# Altium footprint library Burr-Brown Footprints.PcbLib: 201 footprints (part 4 of 13)
Each footprint in its own frame and in the unit in brackets; x right, y up, seen from the top. Pads: shape width x height; smd on the part's side, far side on the other; paste and mask are expansions set on the pad; w line width, h text height; cw(c..) or ccw(c..) is an arc to the next point about the centre after c.
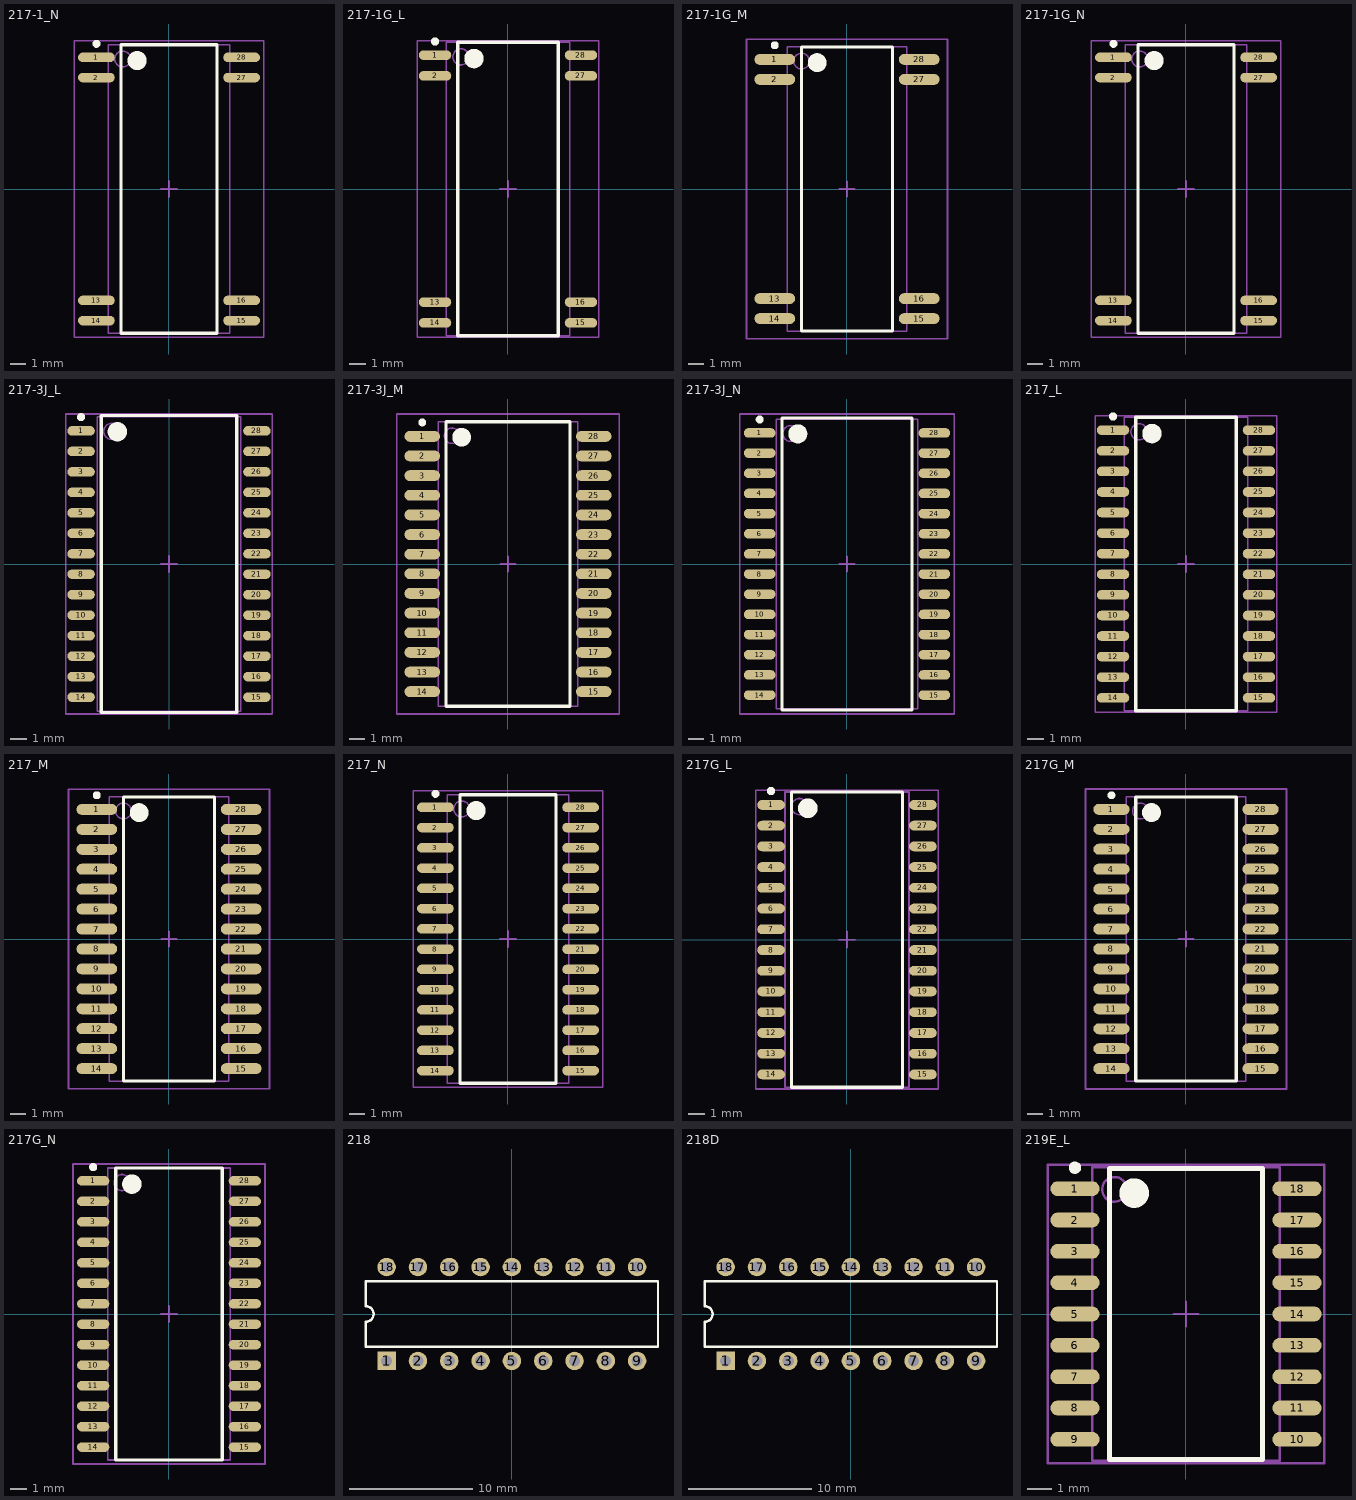
[diagram p3: the footprints below, top view; thin cyan lines are the x and y axes]

## 217-1_N [mm] "28-Pin (20 Absent) Small Outline Integrated Circuit 1.27 mm Pitch, IPC Medium Density"
height 2.64
pads (8):
  oval 2.3x0.6 smd: 1(-4.55,8.255) 2(-4.55,6.985) 13(-4.55,-6.985) 14(-4.55,-8.255) 15(4.55,-8.255) 16(4.55,-6.985) 27(4.55,6.985) 28(4.55,8.255)
Top Overlay:
  circle w0.6: c-2,8.05 r0.3
  circle w0.25: c-4.55,9.105 r0.125
  lines w0.2: -3,-9.05 3,-9.05 3,9.05 -3,9.05 -3,-9.05
Mechanical 13:
  circle w0.1: c-2.9,8.15 r0.5
  lines w0.1: -3.8,-9.05 3.8,-9.05 3.8,9.05 -3.8,9.05 -3.8,-9.05
Mechanical 15:
  lines w0.1: -0.5,0 0.5,0 ; 0,-0.5 0,0.5 ; -5.95,-9.3 5.95,-9.3 5.95,9.3 -5.95,9.3 -5.95,-9.3
3D body: height 2.64, standoff 0, extent -3.8,-9.05 3.8,9.05

## 217-1G_L [mm] "28-Pin (20 Absent) Small Outline Integrated Circuit 1.27 mm Pitch, IPC High Density"
height 2.65
pads (8):
  oval 2x0.6 smd: 1(-4.5,8.255) 2(-4.5,6.985) 13(-4.5,-6.985) 14(-4.5,-8.255) 15(4.5,-8.255) 16(4.5,-6.985) 27(4.5,6.985) 28(4.5,8.255)
Top Overlay:
  circle w0.25: c-4.5,9.105 r0.125
  circle w0.6: c-2.1,8.05 r0.3
  lines w0.2: -3.1,-9.05 -3.1,9.05 3.1,9.05 3.1,-9.05 -3.1,-9.05
Mechanical 13:
  circle w0.1: c-2.9,8.15 r0.5
  lines w0.1: -3.8,-9.05 -3.8,9.05 3.8,9.05 3.8,-9.05 -3.8,-9.05
Mechanical 15:
  lines w0.1: -0.5,0 0.5,0 ; 0,-0.5 0,0.5 ; -5.6,-9.15 -5.6,9.15 5.6,9.15 5.6,-9.15 -5.6,-9.15
3D body: height 2.65, standoff 0, extent -3.8,-9.05 3.8,9.05

## 217-1G_M [mm] "28-Pin (20 Absent) Small Outline Integrated Circuit 1.27 mm Pitch, IPC Low Density"
height 2.65
pads (8):
  oval 2.6x0.7 smd: 1(-4.6,8.255) 2(-4.6,6.985) 13(-4.6,-6.985) 14(-4.6,-8.255) 15(4.6,-8.255) 16(4.6,-6.985) 27(4.6,6.985) 28(4.6,8.255)
Top Overlay:
  circle w0.25: c-4.6,9.155 r0.125
  circle w0.6: c-1.9,8.05 r0.3
  lines w0.2: -2.9,-9.05 -2.9,9.05 2.9,9.05 2.9,-9.05 -2.9,-9.05
Mechanical 13:
  circle w0.1: c-2.9,8.15 r0.5
  lines w0.1: -3.8,-9.05 -3.8,9.05 3.8,9.05 3.8,-9.05 -3.8,-9.05
Mechanical 15:
  lines w0.1: -0.5,0 0.5,0 ; 0,-0.5 0,0.5 ; -6.4,-9.55 -6.4,9.55 6.4,9.55 6.4,-9.55 -6.4,-9.55
3D body: height 2.65, standoff 0, extent -3.8,-9.05 3.8,9.05

## 217-1G_N [mm] "28-Pin (20 Absent) Small Outline Integrated Circuit 1.27 mm Pitch, IPC Medium Density"
height 2.65
pads (8):
  oval 2.3x0.6 smd: 1(-4.55,8.255) 2(-4.55,6.985) 13(-4.55,-6.985) 14(-4.55,-8.255) 15(4.55,-8.255) 16(4.55,-6.985) 27(4.55,6.985) 28(4.55,8.255)
Top Overlay:
  circle w0.6: c-2,8.05 r0.3
  circle w0.25: c-4.55,9.105 r0.125
  lines w0.2: -3,-9.05 3,-9.05 3,9.05 -3,9.05 -3,-9.05
Mechanical 13:
  circle w0.1: c-2.9,8.15 r0.5
  lines w0.1: -3.8,-9.05 3.8,-9.05 3.8,9.05 -3.8,9.05 -3.8,-9.05
Mechanical 15:
  lines w0.1: -0.5,0 0.5,0 ; 0,-0.5 0,0.5 ; -5.95,-9.3 5.95,-9.3 5.95,9.3 -5.95,9.3 -5.95,-9.3
3D body: height 2.65, standoff 0, extent -3.8,-9.05 3.8,9.05

## 217-3J_L [mm] "28-Pin Small Outline Integrated Circuit 1.27 mm Pitch, IPC High Density"
height 3
pads (28):
  oval 1.7x0.6 smd: 1(-5.45,8.255) 2(-5.45,6.985) 3(-5.45,5.715) 4(-5.45,4.445) 5(-5.45,3.175) 6(-5.45,1.905) 7(-5.45,0.635) 8(-5.45,-0.635) 9(-5.45,-1.905) 10(-5.45,-3.175) 11(-5.45,-4.445) 12(-5.45,-5.715) 13(-5.45,-6.985) 14(-5.45,-8.255) 15(5.45,-8.255) 16(5.45,-6.985) 17(5.45,-5.715) 18(5.45,-4.445) 19(5.45,-3.175) 20(5.45,-1.905) 21(5.45,-0.635) 22(5.45,0.635) 23(5.45,1.905) 24(5.45,3.175) 25(5.45,4.445) 26(5.45,5.715) 27(5.45,6.985) 28(5.45,8.255)
Top Overlay:
  circle w0.25: c-5.45,9.105 r0.125
  circle w0.6: c-3.2,8.2 r0.3
  lines w0.2: -4.2,-9.2 -4.2,9.2 4.2,9.2 4.2,-9.2 -4.2,-9.2
Mechanical 13:
  circle w0.1: c-3.545,8.22 r0.5
  lines w0.1: -4.445,-9.12 -4.445,9.12 4.445,9.12 4.445,-9.12 -4.445,-9.12
Mechanical 15:
  lines w0.1: -0.5,0 0.5,0 ; 0,-0.5 0,0.5 ; -6.4,-9.3 -6.4,9.3 6.4,9.3 6.4,-9.3 -6.4,-9.3
3D body: height 3, standoff 0, extent -4.445,-9.12 4.445,9.12

## 217-3J_M [mm] "28-Pin Small Outline Integrated Circuit 1.27 mm Pitch, IPC Low Density"
height 3
pads (28):
  oval 2.3x0.7 smd: 1(-5.55,8.255) 2(-5.55,6.985) 3(-5.55,5.715) 4(-5.55,4.445) 5(-5.55,3.175) 6(-5.55,1.905) 7(-5.55,0.635) 8(-5.55,-0.635) 9(-5.55,-1.905) 10(-5.55,-3.175) 11(-5.55,-4.445) 12(-5.55,-5.715) 13(-5.55,-6.985) 14(-5.55,-8.255) 15(5.55,-8.255) 16(5.55,-6.985) 17(5.55,-5.715) 18(5.55,-4.445) 19(5.55,-3.175) 20(5.55,-1.905) 21(5.55,-0.635) 22(5.55,0.635) 23(5.55,1.905) 24(5.55,3.175) 25(5.55,4.445) 26(5.55,5.715) 27(5.55,6.985) 28(5.55,8.255)
Top Overlay:
  circle w0.25: c-5.55,9.155 r0.125
  circle w0.6: c-3,8.2 r0.3
  lines w0.2: -4,-9.2 -4,9.2 4,9.2 4,-9.2 -4,-9.2
Mechanical 13:
  circle w0.1: c-3.61,8.295 r0.5
  lines w0.1: -4.51,-9.195 -4.51,9.195 4.51,9.195 4.51,-9.195 -4.51,-9.195
Mechanical 15:
  lines w0.1: -0.5,0 0.5,0 ; 0,-0.5 0,0.5 ; -7.2,-9.7 -7.2,9.7 7.2,9.7 7.2,-9.7 -7.2,-9.7
3D body: height 3, standoff 0, extent -4.51,-9.195 4.51,9.195

## 217-3J_N [mm] "28-Pin Small Outline Integrated Circuit 1.27 mm Pitch, IPC Medium Density"
height 3
pads (28):
  oval 2x0.6 smd: 1(-5.5,8.255) 2(-5.5,6.985) 3(-5.5,5.715) 4(-5.5,4.445) 5(-5.5,3.175) 6(-5.5,1.905) 7(-5.5,0.635) 8(-5.5,-0.635) 9(-5.5,-1.905) 10(-5.5,-3.175) 11(-5.5,-4.445) 12(-5.5,-5.715) 13(-5.5,-6.985) 14(-5.5,-8.255) 15(5.5,-8.255) 16(5.5,-6.985) 17(5.5,-5.715) 18(5.5,-4.445) 19(5.5,-3.175) 20(5.5,-1.905) 21(5.5,-0.635) 22(5.5,0.635) 23(5.5,1.905) 24(5.5,3.175) 25(5.5,4.445) 26(5.5,5.715) 27(5.5,6.985) 28(5.5,8.255)
Top Overlay:
  circle w0.25: c-5.5,9.105 r0.125
  circle w0.6: c-3.1,8.2 r0.3
  lines w0.2: -4.1,-9.2 -4.1,9.2 4.1,9.2 4.1,-9.2 -4.1,-9.2
Mechanical 13:
  circle w0.1: c-3.545,8.22 r0.5
  lines w0.1: -4.445,-9.12 -4.445,9.12 4.445,9.12 4.445,-9.12 -4.445,-9.12
Mechanical 15:
  lines w0.1: -0.5,0 0.5,0 ; 0,-0.5 0,0.5 ; -6.75,-9.45 -6.75,9.45 6.75,9.45 6.75,-9.45 -6.75,-9.45
3D body: height 3, standoff 0, extent -4.445,-9.12 4.445,9.12

## 217_L [mm] "28-Pin Small Outline Integrated Circuit 1.27 mm Pitch, IPC High Density"
height 2.64
pads (28):
  oval 2x0.6 smd: 1(-4.5,8.255) 2(-4.5,6.985) 3(-4.5,5.715) 4(-4.5,4.445) 5(-4.5,3.175) 6(-4.5,1.905) 7(-4.5,0.635) 8(-4.5,-0.635) 9(-4.5,-1.905) 10(-4.5,-3.175) 11(-4.5,-4.445) 12(-4.5,-5.715) 13(-4.5,-6.985) 14(-4.5,-8.255) 15(4.5,-8.255) 16(4.5,-6.985) 17(4.5,-5.715) 18(4.5,-4.445) 19(4.5,-3.175) 20(4.5,-1.905) 21(4.5,-0.635) 22(4.5,0.635) 23(4.5,1.905) 24(4.5,3.175) 25(4.5,4.445) 26(4.5,5.715) 27(4.5,6.985) 28(4.5,8.255)
Top Overlay:
  circle w0.25: c-4.5,9.105 r0.125
  circle w0.6: c-2.1,8.05 r0.3
  lines w0.2: -3.1,-9.05 -3.1,9.05 3.1,9.05 3.1,-9.05 -3.1,-9.05
Mechanical 13:
  circle w0.1: c-2.9,8.155 r0.5
  lines w0.1: -3.8,-9.055 -3.8,9.055 3.8,9.055 3.8,-9.055 -3.8,-9.055
Mechanical 15:
  lines w0.1: -0.5,0 0.5,0 ; 0,-0.5 0,0.5 ; -5.6,-9.15 -5.6,9.15 5.6,9.15 5.6,-9.15 -5.6,-9.15
3D body: height 2.64, standoff 0, extent -3.8,-9.055 3.8,9.055

## 217_M [mm] "28-Pin Small Outline Integrated Circuit 1.27 mm Pitch, IPC Low Density"
height 2.64
pads (28):
  oval 2.6x0.7 smd: 1(-4.6,8.255) 2(-4.6,6.985) 3(-4.6,5.715) 4(-4.6,4.445) 5(-4.6,3.175) 6(-4.6,1.905) 7(-4.6,0.635) 8(-4.6,-0.635) 9(-4.6,-1.905) 10(-4.6,-3.175) 11(-4.6,-4.445) 12(-4.6,-5.715) 13(-4.6,-6.985) 14(-4.6,-8.255) 15(4.6,-8.255) 16(4.6,-6.985) 17(4.6,-5.715) 18(4.6,-4.445) 19(4.6,-3.175) 20(4.6,-1.905) 21(4.6,-0.635) 22(4.6,0.635) 23(4.6,1.905) 24(4.6,3.175) 25(4.6,4.445) 26(4.6,5.715) 27(4.6,6.985) 28(4.6,8.255)
Top Overlay:
  circle w0.25: c-4.6,9.155 r0.125
  circle w0.6: c-1.9,8.05 r0.3
  lines w0.2: -2.9,-9.05 -2.9,9.05 2.9,9.05 2.9,-9.05 -2.9,-9.05
Mechanical 13:
  circle w0.1: c-2.9,8.155 r0.5
  lines w0.1: -3.8,-9.055 -3.8,9.055 3.8,9.055 3.8,-9.055 -3.8,-9.055
Mechanical 15:
  lines w0.1: -0.5,0 0.5,0 ; 0,-0.5 0,0.5 ; -6.4,-9.55 -6.4,9.55 6.4,9.55 6.4,-9.55 -6.4,-9.55
3D body: height 2.64, standoff 0, extent -3.8,-9.055 3.8,9.055

## 217_N [mm] "28-Pin Small Outline Integrated Circuit 1.27 mm Pitch, IPC Medium Density"
height 2.64
pads (28):
  oval 2.3x0.6 smd: 1(-4.55,8.255) 2(-4.55,6.985) 3(-4.55,5.715) 4(-4.55,4.445) 5(-4.55,3.175) 6(-4.55,1.905) 7(-4.55,0.635) 8(-4.55,-0.635) 9(-4.55,-1.905) 10(-4.55,-3.175) 11(-4.55,-4.445) 12(-4.55,-5.715) 13(-4.55,-6.985) 14(-4.55,-8.255) 15(4.55,-8.255) 16(4.55,-6.985) 17(4.55,-5.715) 18(4.55,-4.445) 19(4.55,-3.175) 20(4.55,-1.905) 21(4.55,-0.635) 22(4.55,0.635) 23(4.55,1.905) 24(4.55,3.175) 25(4.55,4.445) 26(4.55,5.715) 27(4.55,6.985) 28(4.55,8.255)
Top Overlay:
  circle w0.25: c-4.55,9.105 r0.125
  circle w0.6: c-2,8.05 r0.3
  lines w0.2: -3,-9.05 -3,9.05 3,9.05 3,-9.05 -3,-9.05
Mechanical 13:
  circle w0.1: c-2.9,8.155 r0.5
  lines w0.1: -3.8,-9.055 -3.8,9.055 3.8,9.055 3.8,-9.055 -3.8,-9.055
Mechanical 15:
  lines w0.1: -0.5,0 0.5,0 ; 0,-0.5 0,0.5 ; -5.95,-9.3 -5.95,9.3 5.95,9.3 5.95,-9.3 -5.95,-9.3
3D body: height 2.64, standoff 0, extent -3.8,-9.055 3.8,9.055

## 217G_L [mm] "28-Pin Small Outline Integrated Circuit 1.27 mm Pitch, IPC High Density"
height 2.65
pads (28):
  oval 1.7x0.6 smd: 1(-4.65,8.255) 2(-4.65,6.985) 3(-4.65,5.715) 4(-4.65,4.445) 5(-4.65,3.175) 6(-4.65,1.905) 7(-4.65,0.635) 8(-4.65,-0.635) 9(-4.65,-1.905) 10(-4.65,-3.175) 11(-4.65,-4.445) 12(-4.65,-5.715) 13(-4.65,-6.985) 14(-4.65,-8.255) 15(4.65,-8.255) 16(4.65,-6.985) 17(4.65,-5.715) 18(4.65,-4.445) 19(4.65,-3.175) 20(4.65,-1.905) 21(4.65,-0.635) 22(4.65,0.635) 23(4.65,1.905) 24(4.65,3.175) 25(4.65,4.445) 26(4.65,5.715) 27(4.65,6.985) 28(4.65,8.255)
Top Overlay:
  circle w0.25: c-4.65,9.105 r0.125
  circle w0.6: c-2.4,8.05 r0.3
  lines w0.2: -3.4,-9.05 -3.4,9.05 3.4,9.05 3.4,-9.05 -3.4,-9.05
Mechanical 13:
  circle w0.1: c-2.9,8.15 r0.5
  lines w0.1: -3.8,-9.05 -3.8,9.05 3.8,9.05 3.8,-9.05 -3.8,-9.05
Mechanical 15:
  lines w0.1: -0.5,0 0.5,0 ; 0,-0.5 0,0.5 ; -5.6,-9.15 -5.6,9.15 5.6,9.15 5.6,-9.15 -5.6,-9.15
3D body: height 2.65, standoff 0, extent -3.8,-9.05 3.8,9.05

## 217G_M [mm] "28-Pin Small Outline Integrated Circuit 1.27 mm Pitch, IPC Low Density"
height 2.65
pads (28):
  oval 2.3x0.7 smd: 1(-4.75,8.255) 2(-4.75,6.985) 3(-4.75,5.715) 4(-4.75,4.445) 5(-4.75,3.175) 6(-4.75,1.905) 7(-4.75,0.635) 8(-4.75,-0.635) 9(-4.75,-1.905) 10(-4.75,-3.175) 11(-4.75,-4.445) 12(-4.75,-5.715) 13(-4.75,-6.985) 14(-4.75,-8.255) 15(4.75,-8.255) 16(4.75,-6.985) 17(4.75,-5.715) 18(4.75,-4.445) 19(4.75,-3.175) 20(4.75,-1.905) 21(4.75,-0.635) 22(4.75,0.635) 23(4.75,1.905) 24(4.75,3.175) 25(4.75,4.445) 26(4.75,5.715) 27(4.75,6.985) 28(4.75,8.255)
Top Overlay:
  circle w0.25: c-4.75,9.155 r0.125
  circle w0.6: c-2.2,8.05 r0.3
  lines w0.2: -3.2,-9.05 -3.2,9.05 3.2,9.05 3.2,-9.05 -3.2,-9.05
Mechanical 13:
  circle w0.1: c-2.9,8.15 r0.5
  lines w0.1: -3.8,-9.05 -3.8,9.05 3.8,9.05 3.8,-9.05 -3.8,-9.05
Mechanical 15:
  lines w0.1: -0.5,0 0.5,0 ; 0,-0.5 0,0.5 ; -6.4,-9.55 -6.4,9.55 6.4,9.55 6.4,-9.55 -6.4,-9.55
3D body: height 2.65, standoff 0, extent -3.8,-9.05 3.8,9.05

## 217G_N [mm] "28-Pin Small Outline Integrated Circuit 1.27 mm Pitch, IPC Medium Density"
height 2.65
pads (28):
  oval 2x0.6 smd: 1(-4.7,8.255) 2(-4.7,6.985) 3(-4.7,5.715) 4(-4.7,4.445) 5(-4.7,3.175) 6(-4.7,1.905) 7(-4.7,0.635) 8(-4.7,-0.635) 9(-4.7,-1.905) 10(-4.7,-3.175) 11(-4.7,-4.445) 12(-4.7,-5.715) 13(-4.7,-6.985) 14(-4.7,-8.255) 15(4.7,-8.255) 16(4.7,-6.985) 17(4.7,-5.715) 18(4.7,-4.445) 19(4.7,-3.175) 20(4.7,-1.905) 21(4.7,-0.635) 22(4.7,0.635) 23(4.7,1.905) 24(4.7,3.175) 25(4.7,4.445) 26(4.7,5.715) 27(4.7,6.985) 28(4.7,8.255)
Top Overlay:
  circle w0.25: c-4.7,9.105 r0.125
  circle w0.6: c-2.3,8.05 r0.3
  lines w0.2: -3.3,-9.05 -3.3,9.05 3.3,9.05 3.3,-9.05 -3.3,-9.05
Mechanical 13:
  circle w0.1: c-2.9,8.15 r0.5
  lines w0.1: -3.8,-9.05 -3.8,9.05 3.8,9.05 3.8,-9.05 -3.8,-9.05
Mechanical 15:
  lines w0.1: -0.5,0 0.5,0 ; 0,-0.5 0,0.5 ; -5.95,-9.3 -5.95,9.3 5.95,9.3 5.95,-9.3 -5.95,-9.3
3D body: height 2.65, standoff 0, extent -3.8,-9.05 3.8,9.05

## 218 [mm] "DIP; 18 Leads; Row Spacing 7.62 mm; Pitch 2.54 mm"
height 5.33
pads (18):
  rect 1.5x1.5 hole 0.9: 1(-10.16,-3.81)
  round 1.5 hole 0.9: 2(-7.62,-3.81) 3(-5.08,-3.81) 4(-2.54,-3.81) 5(0,-3.81) 6(2.54,-3.81) 7(5.08,-3.81) 8(7.62,-3.81) 9(10.16,-3.81) 10(10.16,3.81) 11(7.62,3.81) 12(5.08,3.81) 13(2.54,3.81) 14(0,3.81) 15(-2.54,3.81) 16(-5.08,3.81) 17(-7.62,3.81) 18(-10.16,3.81)
Top Overlay:
  lines w0.2: -11.85,-2.65 11.85,-2.65 11.85,2.65 -11.85,2.65 -11.85,0.635 cw(c-11.85,0) -11.85,-0.635 -11.85,-2.65

## 218D [mm] "DIP; 18 Leads; Row Spacing 7.62 mm; Pitch 2.54 mm"
height 5.33
pads (18):
  rect 1.5x1.5 hole 0.9: 1(-10.16,-3.81)
  round 1.5 hole 0.9: 2(-7.62,-3.81) 3(-5.08,-3.81) 4(-2.54,-3.81) 5(0,-3.81) 6(2.54,-3.81) 7(5.08,-3.81) 8(7.62,-3.81) 9(10.16,-3.81) 10(10.16,3.81) 11(7.62,3.81) 12(5.08,3.81) 13(2.54,3.81) 14(0,3.81) 15(-2.54,3.81) 16(-5.08,3.81) 17(-7.62,3.81) 18(-10.16,3.81)
Top Overlay:
  lines w0.2: -11.85,-2.65 11.85,-2.65 11.85,2.65 -11.85,2.65 -11.85,0.635 cw(c-11.85,0) -11.85,-0.635 -11.85,-2.65

## 219E_L [mm] "18-Pin Small Outline Integrated Circuit 1.27 mm Pitch, IPC High Density"
height 2.65
pads (18):
  oval 2x0.6 smd: 1(-4.5,5.08) 2(-4.5,3.81) 3(-4.5,2.54) 4(-4.5,1.27) 5(-4.5,0) 6(-4.5,-1.27) 7(-4.5,-2.54) 8(-4.5,-3.81) 9(-4.5,-5.08) 10(4.5,-5.08) 11(4.5,-3.81) 12(4.5,-2.54) 13(4.5,-1.27) 14(4.5,0) 15(4.5,1.27) 16(4.5,2.54) 17(4.5,3.81) 18(4.5,5.08)
Top Overlay:
  circle w0.25: c-4.5,5.93 r0.125
  circle w0.6: c-2.1,4.9 r0.3
  lines w0.2: -3.1,-5.9 -3.1,5.9 3.1,5.9 3.1,-5.9 -3.1,-5.9
Mechanical 13:
  circle w0.1: c-2.9,5.05 r0.5
  lines w0.1: -3.8,-5.95 -3.8,5.95 3.8,5.95 3.8,-5.95 -3.8,-5.95
Mechanical 15:
  lines w0.1: -0.5,0 0.5,0 ; 0,-0.5 0,0.5 ; -5.6,-6.05 -5.6,6.05 5.6,6.05 5.6,-6.05 -5.6,-6.05
3D body: height 2.65, standoff 0, extent -3.8,-5.95 3.8,5.95